# Altium schematic symbol library ESP32_SCH.SchLib: 1 symbol
Pins are listed as number, name and electrical type; pins without a type are passive.

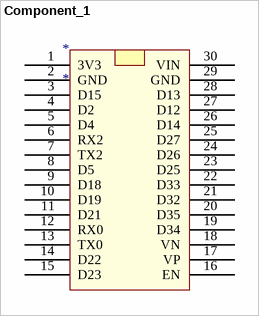
[diagram p0: symbol Component_1]

## Component_1
designator *
footprint ESP32
pins: 1 3V3, 2 GND, 3 D15, 4 D2, 5 D4, 6 RX2, 7 TX2, 8 D5, 9 D18, 10 D19, 11 D21, 12 RX0, 13 TX0, 14 D22, 15 D23, 16 EN, 17 VP, 18 VN, 19 D34, 20 D35, 21 D32, 22 D33, 23 D25, 24 D26, 25 D27, 26 D14, 27 D12, 28 D13, 29 GND, 30 VIN